# EAGLE library part HT16K33-28 (library saha-aux)
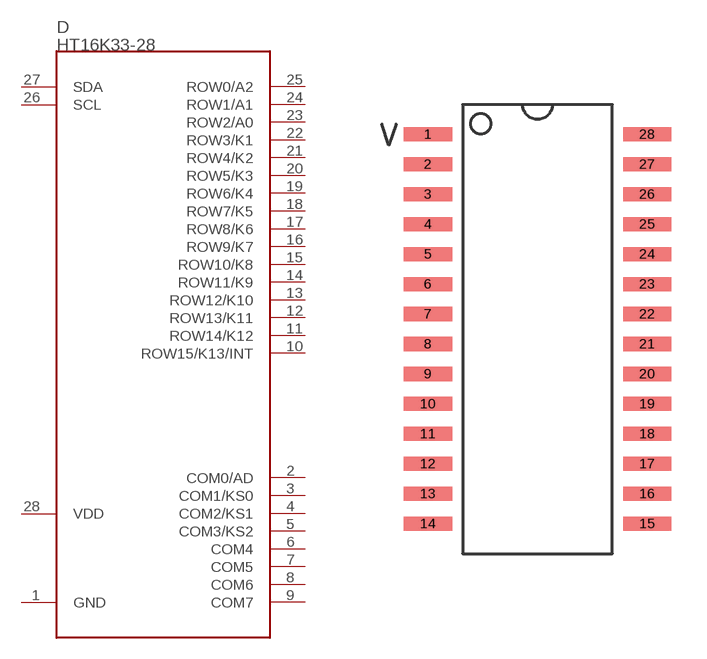
[diagram p0: symbol with the pads of SOP28-300; footprint SOP28-300]

Designator prefix D

## HT16K33-28  [SOP28-300]
1  GND
2  COM0/AD
3  COM1/KS0
4  COM2/KS1
5  COM3/KS2
6  COM4
7  COM5
8  COM6
9  COM7
10  ROW15/K13/INT
11  ROW14/K12
12  ROW13/K11
13  ROW12/K10
14  ROW11/K9
15  ROW10/K8
16  ROW9/K7
17  ROW8/K6
18  ROW7/K5
19  ROW6/K4
20  ROW5/K3
21  ROW4/K2
22  ROW3/K1
23  ROW2/A0
24  ROW1/A1
25  ROW0/A2
26  SCL
27  SDA
28  VDD

## Footprint SOP28-300 (pad centres in mm)
smd 2.05 x 0.6: 1 -4.65,8.255; 2 -4.65,6.985; 3 -4.65,5.715; 4 -4.65,4.445; 5 -4.65,3.175; 6 -4.65,1.905; 7 -4.65,0.635; 8 -4.65,-0.635; 9 -4.65,-1.905; 10 -4.65,-3.175; 11 -4.65,-4.445; 12 -4.65,-5.715; 13 -4.65,-6.985; 14 -4.65,-8.255; 15 4.65,-8.255; 16 4.65,-6.985; 17 4.65,-5.715; 18 4.65,-4.445; 19 4.65,-3.175; 20 4.65,-1.905; 21 4.65,-0.635; 22 4.65,0.635; 23 4.65,1.905; 24 4.65,3.175; 25 4.65,4.445; 26 4.65,5.715; 27 4.65,6.985; 28 4.65,8.255